# Altium footprint library HardWare.PcbLib: 173 footprints (part 9 of 11)
Each footprint in its own frame and in the unit in brackets; x right, y up, seen from the top. Pads: shape width x height; smd on the part's side, far side on the other; paste and mask are expansions set on the pad; w line width, h text height; cw(c..) or ccw(c..) is an arc to the next point about the centre after c.
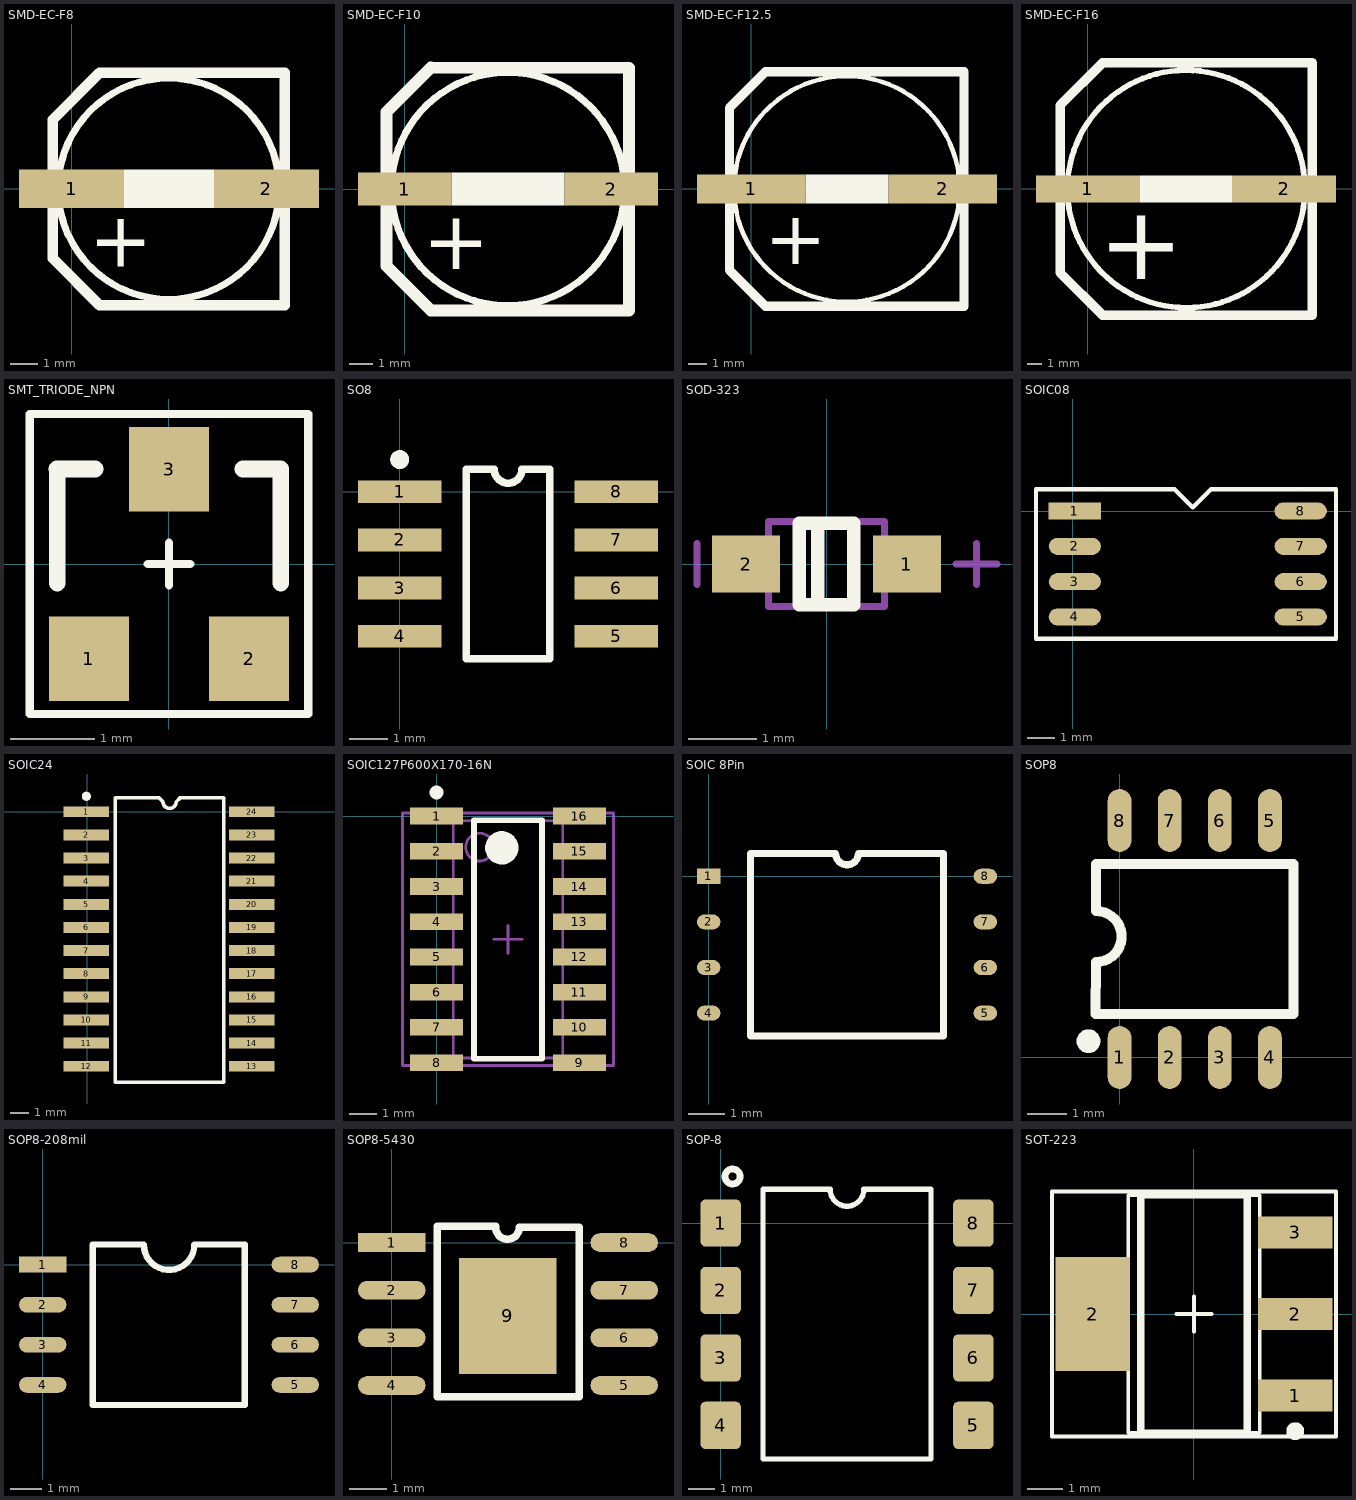
[diagram p8: the footprints below, top view; thin cyan lines are the x and y axes]

## SMD-EC-F8 [mm]
pads (2):
  rect 3.8x1.4 smd: 1(0,0) 2(7.051,0)
Top Overlay:
  rectangle: 1.89,-0.7 5.153,0.7
  lines w0.254: 7.515,0 ccw(c3.515,0) 7.515,0
  lines w0.381: -0.686,2.499 1.013,4.198 ; -0.686,2.499 -0.686,-2.52 1.013,-4.219 7.714,-4.219 7.714,4.198 1.013,4.198 ; -0.686,2.499 1.013,4.198
  text "+" at 0.64,-2.818 h2

## SMD-EC-F10 [mm]
pads (2):
  rect 4x1.4 smd: 1(0,0) 2(8.86,0)
Top Overlay:
  circle w0.305: c4.422,0 r5
  rectangle: 2.006,-0.701 6.849,0.707
  lines w0.508: 1.12,5.203 -0.778,3.306 -0.778,-3.304 1.12,-5.201 9.62,-5.201 9.62,5.2 1.123,5.2
  text "+" at 0.78,-3.44 h2.5

## SMD-EC-F12.5 [mm]
pads (2):
  rect 6x1.6 smd: 1(0,0) 2(10.625,0)
Top Overlay:
  circle w0.254: c5.303,0 r6.25
  rectangle: 3.019,-0.8 7.601,0.8
  lines w0.508: -1.202,-4.498 0.799,-6.499 11.797,-6.499 11.797,6.495 0.799,6.495 0.797,6.493 -1.202,4.494 -1.202,-4.498
  text "+" at 0.75,-4.168 h3

## SMD-EC-F16 [mm]
pads (2):
  rect 7x1.8 smd: 1(0,0) 2(13.215,0)
Top Overlay:
  rectangle: 3.503,-0.9 9.696,0.914
  lines w0.381: 14.301,2.24 ccw(c6.62,0.001) 14.315,2.19
  lines w0.635: 15.122,-8.499 15.123,-8.5 ; 15.122,8.496 15.123,8.497 ; 15.123,-8.5 0.981,-8.5 -1.877,-5.642 -1.877,5.638 0.981,8.497 15.123,8.497 ; 15.123,-8.5 15.123,8.497
  text "+" at 0.729,-6.087 h5

## SMT_TRIODE_NPN [mm] "Surface mount NPN transistor, package SOT-23"
height 1.1
pads (3):
  rect 0.95x1 smd: 1(-0.95,-1.125) 2(0.95,-1.125) 3(0,1.125)
Top Overlay:
  lines w0.1: -0.254,0 0.254,0 ; 0,-0.254 0,0.254 ; -1.651,-1.778 -1.651,1.778 1.651,1.778 1.651,-1.778 -1.651,-1.778
  lines w0.2: -1.328,1.125 -0.875,1.125 ; -1.325,-0.225 -1.325,1.125 ; 0.875,1.125 1.325,1.125 1.325,-0.225
3D body "User Library-SOT23-3.step": height 1.3, standoff 0, extent -1.448,-1.397 1.452,1.403

## SO8 [mm] "Small Outline; 8 Leads; Body Width 3.9 mm; Pitch 1.27 mm"
height 1.75
pads (8):
  rect 2.2x0.6 smd: 1(0,0) 2(0,-1.27) 3(0,-2.54) 4(0,-3.81) 5(5.715,-3.81) 6(5.715,-2.54) 7(5.715,-1.27) 8(5.715,0)
Top Overlay:
  circle w0.25: c0,0.85 r0.125
  lines w0.2: 1.761,-4.405 3.961,-4.405 3.961,0.595 3.228,0.595 cw(c2.861,0.595) 2.494,0.595 1.761,0.595 1.761,-4.405

## SOD-323 [mm]
pads (2):
  rect 1x0.83 smd: 1(1.18,0) 2(-1.18,0)
Top Overlay:
  lines w0.2: -0.13,-0.6 -0.13,0.6 ; -0.4,-0.6 0.4,-0.6 0.4,0.6 -0.4,0.6 -0.4,-0.6
Mechanical 13:
  lines w0.1: -0.85,-0.625 0.85,-0.625 0.85,0.625 -0.85,0.625 -0.85,-0.625
Mechanical 15:
  lines w0.1: -1.9,-0.3 -1.9,0.3 ; 1.9,0 2.5,0 ; 2.2,-0.3 2.2,0.3
3D body "SOD323.STEP": height 1.1, standoff 0, extent -1.35,-0.625 1.35,0.625

## SOIC08 [mil]
pads (8):
  rect 74x24 smd: 1(3,0)
  oval 74x24 smd: 2(3,-50) 3(3,-100) 4(3,-150) 5(323,-150) 6(323,-100) 7(323,-50) 8(323,0)
Top Overlay:
  lines w6: -52,-180.95 -52,30.95 144.05,30.95 170,5 195.95,30.95 373,30.95 373,-180.95 -52,-180.95

## SOIC24 [mm] "Small Outline; 24Leads; Pitch 1.27 mm"
height 1.75
pads (24):
  rect 2.5x0.6 smd: 1(-0.06,0) 2(-0.06,-1.27) 3(-0.06,-2.54) 4(-0.06,-3.81) 5(-0.06,-5.08) 6(-0.06,-6.35) 7(-0.06,-7.62) 8(-0.06,-8.89) 9(-0.06,-10.16) 10(-0.06,-11.43) 11(-0.06,-12.7) 12(-0.06,-13.97) 13(9.01,-13.97) 14(9.01,-12.7) 15(9.01,-11.43) 16(9.01,-10.16) 17(9.017,-8.89) 18(9.017,-7.62) 19(9.017,-6.35) 20(9.017,-5.08) 21(9.017,-3.81) 22(9.017,-2.54) 23(9.017,-1.27) 24(9.017,0)
Top Overlay:
  circle w0.25: c-0.06,0.85 r0.125
  lines w0.2: 1.905,0.762 3.937,0.762 4.144,0.555 ccw(c4.511,0.555) 4.877,0.555 ; 2.22,0.762 1.524,0.762 1.524,-14.859 7.493,-14.859 7.493,0.762 5.334,0.762 5.08,0.762 4.873,0.555

## SOIC127P600X170-16N [mm] "SOIC, 16-Leads, Body 8.6x4.0mm (max), Pitch 1.27mm, IPC Medium Density"
height 1.7
pads (16):
  rect 1.9x0.6 smd: 1(-0.01,0) 2(-0.01,-1.27) 3(-0.01,-2.54) 4(-0.01,-3.81) 5(-0.01,-5.08) 6(-0.01,-6.35) 7(-0.01,-7.62) 8(-0.01,-8.89) 9(5.14,-8.89) 10(5.14,-7.62) 11(5.14,-6.35) 12(5.14,-5.08) 13(5.14,-3.81) 14(5.14,-2.54) 15(5.14,-1.27) 16(5.14,0)
Top Overlay:
  circle w0.6: c2.34,-1.145 r0.3
  circle w0.25: c-0.01,0.85 r0.125
  lines w0.2: 1.34,-8.745 3.79,-8.745 3.79,-0.145 1.34,-0.145 1.34,-8.745
Mechanical 13:
  circle w0.1: c1.54,-1.12 r0.5
  lines w0.1: 0.59,-8.72 4.54,-8.72 4.54,-0.17 0.59,-0.17 0.59,-8.72
Mechanical 15:
  lines w0.1: 2.065,-4.445 3.065,-4.445 ; 2.565,-4.945 2.565,-3.945 ; -1.235,-8.995 6.365,-8.995 6.365,0.105 -1.235,0.105 -1.235,-8.995
3D body: height 1.7, standoff 0.16, extent 0.59,-8.72 4.54,-0.17

## SOIC 8Pin [mm]
pads (8):
  rect 0.65x0.42 smd: 1(0,0)
  oval 0.65x0.42 smd: 2(0,-1.27) 3(0,-2.54) 4(0,-3.81) 5(7.7,-3.81) 6(7.7,-2.54) 7(7.7,-1.27) 8(7.7,0)
Top Overlay:
  lines w0.2: 1.16,-4.445 1.16,0.635 3.532,0.635 ccw(c3.85,0.635) 4.167,0.635 6.54,0.635 6.54,-4.445 1.16,-4.445

## SOP8 [mm] "CH340N"
pads (8):
  oval 0.6x1.598 smd: 1(0,0) 2(1.27,0) 3(2.54,0) 4(3.81,0) 5(3.81,6) 6(2.54,6) 7(1.27,6) 8(0,6)
Top Overlay:
  lines w0.254: -0.61,1.095 -0.595,2.416 ccw(c-0.595,3.063) -0.595,3.711 ; -0.595,1.1 4.405,1.1 4.405,4.9 -0.595,4.9 -0.595,3.711
  lines w0.3: -0.787,0.562 ccw(c-0.786,0.412) -0.785,0.562

## SOP8-208mil [mm]
pads (8):
  rect 1.5x0.5 smd: 1(0,0)
  oval 1.5x0.5 smd: 2(0,-1.27) 3(0,-2.54) 4(0,-3.81) 5(8,-3.81) 6(8,-2.54) 7(8,-1.27) 8(8,0)
Top Overlay:
  lines w0.2: 1.585,-4.445 1.585,0.635 3.203,0.631 ccw(c4.003,0.631) 4.803,0.631 6.401,0.635 6.401,-4.445 1.585,-4.445

## SOP8-5430 [mm]
pads (9):
  rect 1.8x0.5 smd: 1(0,0)
  oval 1.8x0.5 smd: 2(0,-1.27) 3(0,-2.54) 4(0,-3.81) 5(6.2,-3.81) 6(6.2,-2.54) 7(6.2,-1.27) 8(6.2,0)
  rect 2.6x3.1 smd: 9(3.099,-1.956)
Top Overlay:
  lines w0.2: 2.769,0.406 ccw(c3.086,0.406) 3.404,0.406 5.004,0.406 5.004,-4.115 1.219,-4.115 1.219,0.432 2.769,0.432

## SOP-8 [mm] "6N137"
pads (8):
  rrect25% 1.52x1.78 smd: 1(0,0) 2(0,-2.54) 3(0,-5.08) 4(0,-7.62) 5(9.52,-7.62) 6(9.52,-5.08) 7(9.52,-2.54) 8(9.52,0)
Top Overlay:
  circle w0.254: c0.449,1.753 r0.284
  lines w0.2: 1.595,-8.89 7.925,-8.89 7.925,1.27 5.395,1.27 cw(c4.76,1.27) 4.125,1.27 1.595,1.27 1.595,-8.89
  text "." at 0.356,1.626 h1.52

## SOT-223 [mm] "3 LEAD SOT-223 PLASTIC PACKAGE"
height 1.8
pads (4):
  rect 2.1x0.9 smd: 1(2.85,-2.3) 2(2.85,0) 3(2.85,2.3)
  rect 2.1x3.2 smd: 2(-2.85,0)
Top Overlay:
  circle w0.25: c2.85,-3.3 r0.125
  lines w0.1: -0.5,0 0.5,0 ; 0,-0.5 0,0.5 ; -4,-3.45 4,-3.45 4,3.45 -4,3.45 -4,-3.45 ; -1.85,-3.35 1.85,-3.35 1.85,3.35 -1.85,3.35 -1.85,-3.35
  lines w0.2: -1.5,-3.35 1.5,-3.35 1.5,3.35 -1.5,3.35 -1.5,-3.35
3D body "User Library-SOT-223-4.STEP": height 1.65, standoff 0, extent -3.543,-3.25 3.543,3.25